# Altium footprint library TC264PcbLib.PcbLib: 3 footprints
Each footprint in its own frame and in the unit in brackets; x right, y up, seen from the top. Pads: shape width x height; smd on the part's side, far side on the other; paste and mask are expansions set on the pad; w line width, h text height; cw(c..) or ccw(c..) is an arc to the next point about the centre after c.
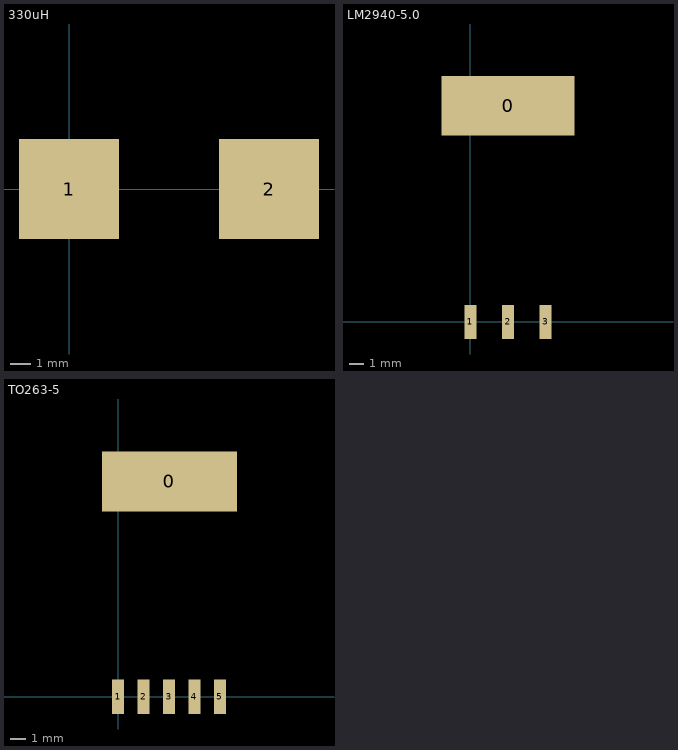
[diagram p0: the footprints below, top view; thin cyan lines are the x and y axes]

## 330uH [mm]
pads (2):
  rect 5x5 smd: 1(0,0) 2(10,0)

## LM2940-5.0 [mm]
pads (4):
  rect 9x4 smd: 0(2.54,14.605)
  rect 0.8x2.3 smd: 1(0,0) 2(2.54,0) 3(5.08,0)
3D body "User Library-TO263-3.STEP": height 4.78, standoff -0.02, extent -2.46,-0.291 7.54,15.379

## TO263-5 [mm]
pads (6):
  rect 9x4 smd: 0(3.429,14.351)
  rect 0.8x2.3 smd: 1(0,0) 2(1.7,0) 3(3.4,0) 4(5.1,0) 5(6.8,0)
3D body "User Library-TO263-5.STEP": height 4.83, standoff 0.03, extent -1.571,-0.545 8.429,15.125